# EAGLE library part WILC3000-MR110 (library atmel-smartconnect)
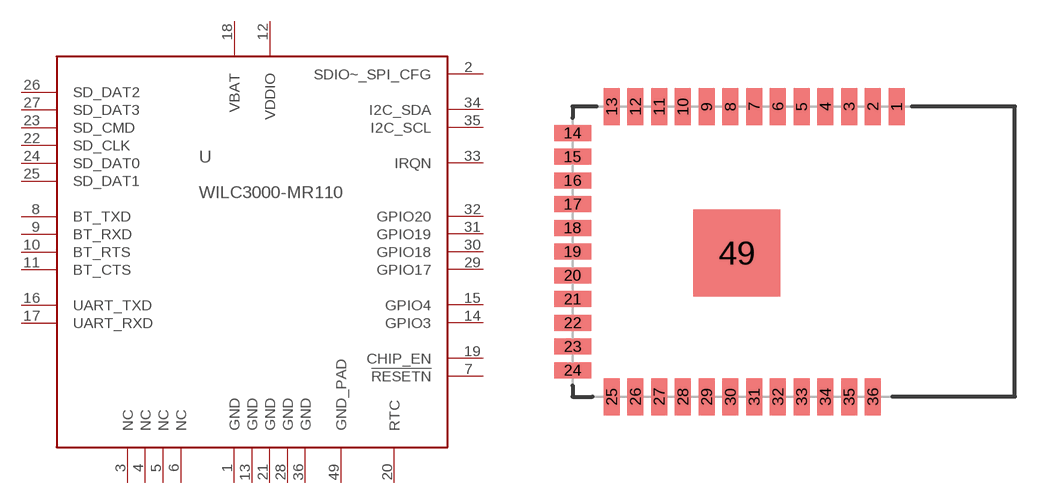
[diagram p0: symbol with the pads of WILC3000-MR110; footprint WILC3000-MR110]

Designator prefix -

## WILC3000-MR110  [WILC3000-MR110]
1  GND  pwr
2  SDIO~_SPI_CFG  in
3  NC  nc
4  NC  nc
5  NC  nc
6  NC  nc
7  !RESETN  in
8  BT_TXD
9  BT_RXD
10  BT_RTS
11  BT_CTS
12  VDDIO  pwr
13  GND  pwr
14  GPIO3
15  GPIO4
16  UART_TXD
17  UART_RXD
18  VBAT  pwr
19  CHIP_EN
20  RTC
21  GND  pwr
22  SD_CLK
23  SD_CMD
24  SD_DAT0
25  SD_DAT1
26  SD_DAT2
27  SD_DAT3
28  GND  pwr
29  GPIO17
30  GPIO18
31  GPIO19
32  GPIO20
33  IRQN
34  I2C_SDA
35  I2C_SCL
36  GND  pwr
49  GND_PAD  pwr

## Footprint WILC3000-MR110 (pad centres in mm)
smd 0.813 x 1.88: 1 5.218,7.366; 2 4.014,7.366; 3 2.81,7.366; 4 1.606,7.366; 5 0.402,7.366; 6 -0.802,7.366; 7 -2.006,7.366; 8 -3.21,7.366; 9 -4.414,7.366; 10 -5.618,7.366; 11 -6.822,7.366; 12 -8.026,7.366; 13 -9.23,7.366; 25 -9.23,-7.366; 26 -8.026,-7.366; 27 -6.822,-7.366; 28 -5.618,-7.366; 29 -4.414,-7.366; 30 -3.21,-7.366; 31 -2.006,-7.366; 32 -0.802,-7.366; 33 0.402,-7.366; 34 1.606,-7.366; 35 2.81,-7.366; 36 4.014,-7.366
smd 1.88 x 0.813: 14 -11.214,6.02; 15 -11.214,4.816; 16 -11.214,3.612; 17 -11.214,2.408; 18 -11.214,1.204; 19 -11.214,0; 20 -11.214,-1.204; 21 -11.214,-2.408; 22 -11.214,-3.612; 23 -11.214,-4.816; 24 -11.214,-6.02
smd 4.4 x 4.4: 49 -2.886,-0.065